# Altium footprint library drive.PcbLib: 2 footprints
Each footprint in its own frame and in the unit in brackets; x right, y up, seen from the top. Pads: shape width x height; smd on the part's side, far side on the other; paste and mask are expansions set on the pad; w line width, h text height; cw(c..) or ccw(c..) is an arc to the next point about the centre after c.
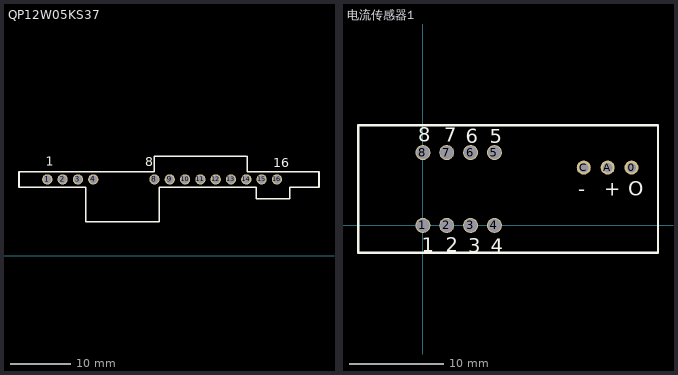
[diagram p0: the footprints below, top view; thin cyan lines are the x and y axes]

## QP12W05KS37 [mm] "IGBT Drive"
pads (13):
  round 1.7 hole 1.3: 1(8.89,12.7) 2(11.43,12.7) 3(13.97,12.7) 4(16.51,12.7) 8(26.67,12.7) 9(29.21,12.7) 10(31.75,12.7) 11(34.29,12.7) 12(36.83,12.7) 13(39.37,12.7) 14(41.91,12.7) 15(44.45,12.7) 16(46.99,12.7)
Top Overlay:
  lines w0.254: 41.91,16.51 26.67,16.51 26.67,13.97 4.191,13.97 4.191,11.43 15.24,11.43 15.24,5.715 27.432,5.715 27.432,11.43 43.561,11.43 43.561,9.525 49.149,9.525 49.149,11.43 53.975,11.43 53.975,13.97 42.037,13.97 42.037,16.51
  text "1" at 8.636,14.986 h1.52
  text "8" at 25.146,14.859 h1.52
  text "16" at 46.355,14.732 h1.52

## 电流传感器1 [mm]
pads (11):
  round 1.5 hole 1: 0(22.2,6.15) A(19.66,6.15) C(17.12,6.15)
  round 1.6 hole 1.4: 1(0,0) 2(2.54,0) 3(5.08,0) 4(7.62,0) 5(7.62,7.75) 6(5.08,7.75) 7(2.54,7.75) 8(0,7.75)
Top Overlay:
  lines w0.254: -6.9,-2.9 25,-2.9 ; -6.9,10.65 25,10.65 ; -6.858,-2.921 -6.858,10.668 ; 25.019,-2.921 25.019,10.668
  text "O" at 21.844,3.175 h1.52
  text "+" at 19.304,3.175 h1.52
  text "-" at 16.51,3.175 h1.52
  text "8" at -0.508,8.89 h1.52
  text "7" at 2.286,8.89 h1.52
  text "6" at 4.572,8.763 h1.52
  text "5" at 7.112,8.763 h1.52
  text "4" at 7.239,-2.921 h1.52
  text "3" at 4.826,-2.921 h1.52
  text "2" at 2.413,-2.794 h1.52
  text "1" at -0.127,-2.794 h1.52